# Altium footprint library RESISTORS.PcbLib: 18 footprints (part 2 of 2)
Each footprint in its own frame and in the unit in brackets; x right, y up, seen from the top. Pads: shape width x height; smd on the part's side, far side on the other; paste and mask are expansions set on the pad; w line width, h text height; cw(c..) or ccw(c..) is an arc to the next point about the centre after c.
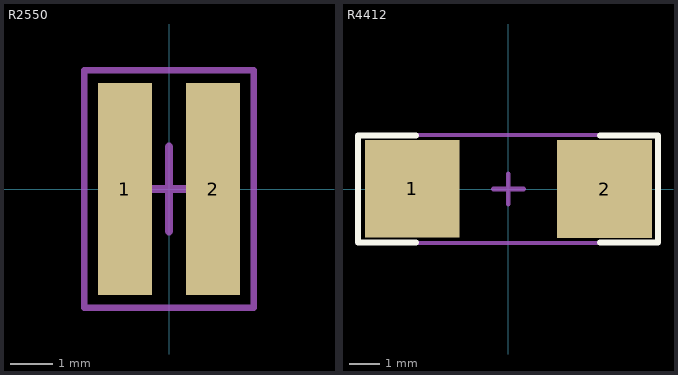
[diagram p1: the footprints below, top view; thin cyan lines are the x and y axes]

## R2550 [mm]
pads (2):
  rect 1.275x5 smd: 1(-1.04,0) 2(1.04,0)
Top Assembly:
  lines w0.15: 2,-2.8 -2,-2.8 -2,2.8 2,2.8 ; 2,-2.794 2,2.769
  text ".Designator" at -4.674,-4.953 h1.8
Top Component Center:
  lines w0.2: -1,0 1,0 ; 0,-1 0,1
3D body "2550.stp": height 0.25, standoff -0.25, extent -1.3,-2.5 1.3,2.5

## R4412 [mm]
pads (2):
  rect 3.1x3.2 smd: 1(-3.15,0.003) 2(3.15,0)
Top Overlay:
  lines w0.2: -3.028,-1.753 -4.928,-1.753 -4.928,1.747 -3.028,1.747 ; 3.002,-1.747 4.902,-1.747 4.902,1.753 3.002,1.753
Top Assembly:
  lines w0.127: -4.925,-1.775 4.9,-1.775 4.9,1.775 -4.925,1.775 -4.925,-1.775
  text ".Designator" at -3.4,-0.625 h1.2
Top Component Center:
  lines w0.15: -0.502,0 0.498,0 ; -0.006,-0.499 -0.006,0.501
3D body "R4411.STEP": height -0.45, standoff -5.02, extent -5.675,-1.5 5.675,1.5